# Altium footprint library pcbSMDv1.PcbLib: 30 footprints (part 2 of 2)
Each footprint in its own frame and in the unit in brackets; x right, y up, seen from the top. Pads: shape width x height; smd on the part's side, far side on the other; paste and mask are expansions set on the pad; w line width, h text height; cw(c..) or ccw(c..) is an arc to the next point about the centre after c.
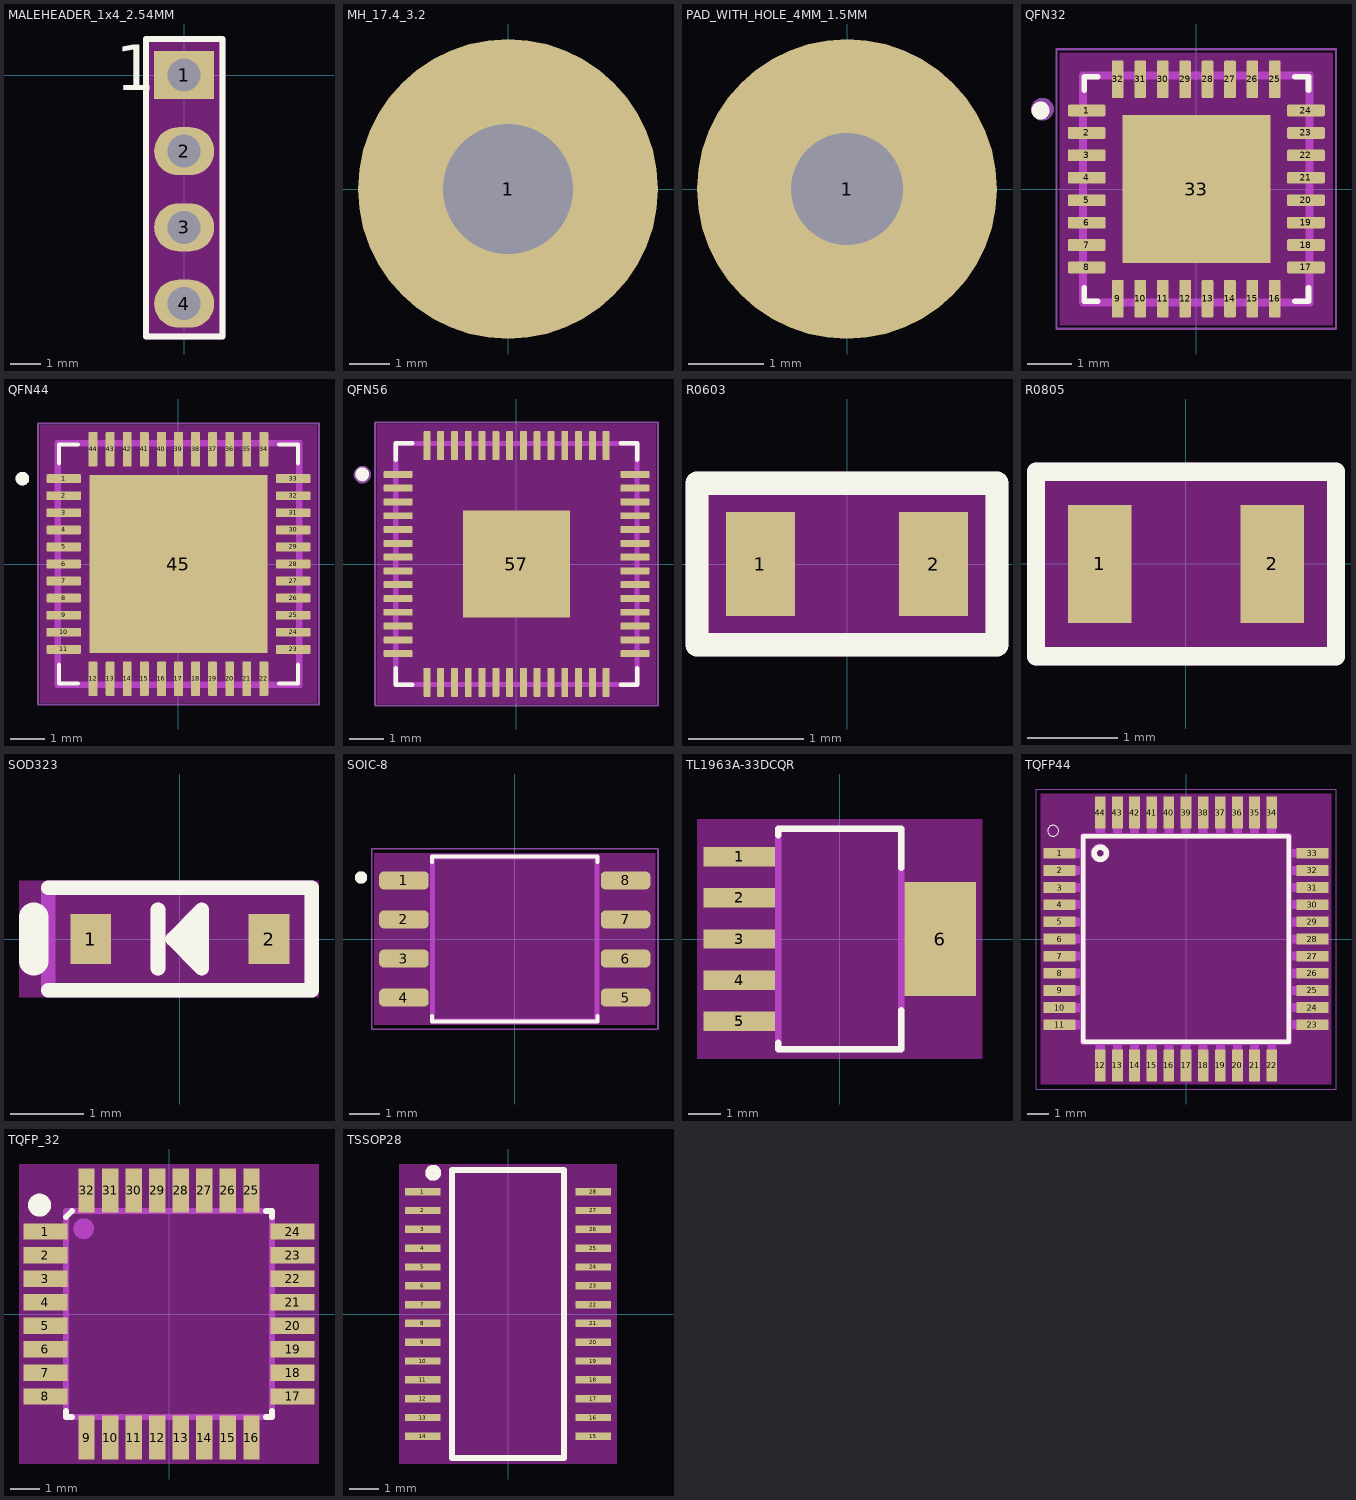
[diagram p1: the footprints below, top view; thin cyan lines are the x and y axes]

## MALEHEADER_1x4_2.54MM [mm]
pads (4):
  rect 2x1.6 hole 1.1: 1(0,0)
  oval 2x1.6 hole 1.1: 2(0,-2.54) 3(0,-5.08) 4(0,-7.62)
Top Overlay:
  lines w0.2: -1.27,-8.724 -1.27,1.2 1.27,1.2 1.27,-8.724 0.635,-8.724 -0.635,-8.724 -1.27,-8.724
  text "1" at -2.286,-0.508 h1.52
Keep-Out Layer:
  rectangle: -1.27,-8.8 1.27,1.2
Mechanical 24:
  circle w0.5: c0,0 r0.359
  lines w0.2: -1.27,-8.724 1.27,-8.724 ; -1.27,-8.7 -1.27,1.2 1.27,1.2 1.27,-8.7
  text ".Designator" at 0.738,-5.746 h1.52
3D body "HDR_1x4_White.stp": height 8.19, standoff -3.31, extent -1.205,-8.66 1.205,1.1

## MH_17.4_3.2 [mm]
pads (1):
  round 7.4 hole 3.2: 1(0,0)

## PAD_WITH_HOLE_4MM_1.5MM [mm]
pads (1):
  round 4 hole 1.5: 1(0,0)

## QFN32 [mm]
pads (33):
  rrect25% 0.84x0.26 smd: 1(-2.445,1.75) 2(-2.445,1.25) 3(-2.445,0.75) 4(-2.445,0.25) 5(-2.445,-0.25) 6(-2.445,-0.75) 7(-2.445,-1.25) 8(-2.445,-1.75) 17(2.445,-1.75) 18(2.445,-1.25) 19(2.445,-0.75) 20(2.445,-0.25) 21(2.445,0.25) 22(2.445,0.75) 23(2.445,1.25) 24(2.445,1.75)
  rrect25% 0.26x0.84 smd: 9(-1.75,-2.445) 10(-1.25,-2.445) 11(-0.75,-2.445) 12(-0.25,-2.445) 13(0.25,-2.445) 14(0.75,-2.445) 15(1.25,-2.445) 16(1.75,-2.445) 25(1.75,2.445) 26(1.25,2.445) 27(0.75,2.445) 28(0.25,2.445) 29(-0.25,2.445) 30(-0.75,2.445) 31(-1.25,2.445) 32(-1.75,2.445)
  rect 3.3x3.3 smd paste-0.605: 33(0,0)
Top Overlay:
  circle w0.2: c-3.475,1.75 r0.1
  lines w0.127: -2.5,-2.2 -2.5,-2.5 -2.2,-2.5 ; -2.5,2.2 -2.5,2.5 -2.2,2.5 ; 2.2,-2.5 2.5,-2.5 2.5,-2.2 ; 2.2,2.5 2.5,2.5 2.5,2.2
Keep-Out Layer:
  rectangle: -3.048,-3.048 3.048,3.048
Mechanical 13:
  circle w0.2: c-3.475,1.75 r0.1
  lines w0.127: -2.5,-2.5 -2.5,2.5 2.5,2.5 2.5,-2.5 -2.5,-2.5
Mechanical 15:
  lines w0.05: -3.115,-3.115 -3.115,3.115 3.115,3.115 3.115,-3.115 -3.115,-3.115
Mechanical 24:
  circle w0.254: c-3.429,1.778 r0.127
  lines w0.15: -2.54,-2.54 2.54,-2.54 2.54,2.54 -2.54,2.54 -2.54,-2.54
3D body "ESP8266EX.STEP": height 0.9, standoff 0, extent -2.5,-2.5 2.5,2.5

## QFN44 [mm]
pads (45):
  rrect25% 1.01x0.26 smd: 1(-3.36,2.5) 2(-3.36,2) 3(-3.36,1.5) 4(-3.36,1) 5(-3.36,0.5) 6(-3.36,0) 7(-3.36,-0.5) 8(-3.36,-1) 9(-3.36,-1.5) 10(-3.36,-2) 11(-3.36,-2.5) 23(3.36,-2.5) 24(3.36,-2) 25(3.36,-1.5) 26(3.36,-1) 27(3.36,-0.5) 28(3.36,0) 29(3.36,0.5) 30(3.36,1) 31(3.36,1.5) 32(3.36,2) 33(3.36,2.5)
  rrect25% 0.26x1.01 smd: 12(-2.5,-3.36) 13(-2,-3.36) 14(-1.5,-3.36) 15(-1,-3.36) 16(-0.5,-3.36) 17(0,-3.36) 18(0.5,-3.36) 19(1,-3.36) 20(1.5,-3.36) 21(2,-3.36) 22(2.5,-3.36) 34(2.5,3.36) 35(2,3.36) 36(1.5,3.36) 37(1,3.36) 38(0.5,3.36) 39(0,3.36) 40(-0.5,3.36) 41(-1,3.36) 42(-1.5,3.36) 43(-2,3.36) 44(-2.5,3.36)
  rect 5.2x5.2 smd paste-4: 45(0,0)
Top Overlay:
  circle w0.2: c-4.57,2.5 r0.1
  lines w0.127: -3.5,-2.95 -3.5,-3.5 -2.95,-3.5 ; -3.5,2.95 -3.5,3.5 -2.95,3.5 ; 2.95,-3.5 3.5,-3.5 3.5,-2.95 ; 2.95,3.5 3.5,3.5 3.5,2.95
Top Paste:
  region: 2.12,-2.12 0.48,-2.12 0.48,-0.48 2.12,-0.48
  region: -0.48,-2.12 -2.12,-2.12 -2.12,-0.48 -0.48,-0.48
  region: 2.12,0.48 0.48,0.48 0.48,2.12 2.12,2.12
  region: -0.48,0.48 -2.12,0.48 -2.12,2.12 -0.48,2.12
Keep-Out Layer:
  rectangle: -4.064,-4.064 4.064,4.064
Mechanical 13:
  circle w0.2: c-4.57,2.5 r0.1
  lines w0.127: -3.5,-3.5 -3.5,3.5 3.5,3.5 3.5,-3.5 -3.5,-3.5
Mechanical 15:
  lines w0.05: -4.115,-4.115 -4.115,4.115 4.115,4.115 4.115,-4.115 -4.115,-4.115
Mechanical 24:
  lines w0.15: -3.556,-3.556 3.556,-3.556 3.556,3.556 -3.556,3.556 -3.556,-3.556
  text ".Designator" at -0.889,-0.762 h1.52
3D body "atmega32u4-mu.STEP": height 1, standoff 0, extent -3.5,-3.5 3.5,3.5

## QFN56 [mm]
pads (57):
  rrect25% 0.84x0.2 smd mask+0.09: 1(-3.435,2.6) 2(-3.435,2.2) 3(-3.435,1.8) 4(-3.435,1.4) 5(-3.435,1) 6(-3.435,0.6) 7(-3.435,0.2) 8(-3.435,-0.2) 9(-3.435,-0.6) 10(-3.435,-1) 11(-3.435,-1.4) 12(-3.435,-1.8) 13(-3.435,-2.2) 14(-3.435,-2.6) 29(3.435,-2.6) 30(3.435,-2.2) 31(3.435,-1.8) 32(3.435,-1.4) 33(3.435,-1) 34(3.435,-0.6) 35(3.435,-0.2) 36(3.435,0.2) 37(3.435,0.6) 38(3.435,1) 39(3.435,1.4) 40(3.435,1.8) 41(3.435,2.2) 42(3.435,2.6)
  rrect25% 0.2x0.84 smd mask+0.09: 15(-2.6,-3.435) 16(-2.2,-3.435) 17(-1.8,-3.435) 18(-1.4,-3.435) 19(-1,-3.435) 20(-0.6,-3.435) 21(-0.2,-3.435) 22(0.2,-3.435) 23(0.6,-3.435) 24(1,-3.435) 25(1.4,-3.435) 26(1.8,-3.435) 27(2.2,-3.435) 28(2.6,-3.435) 43(2.6,3.435) 44(2.2,3.435) 45(1.8,3.435) 46(1.4,3.435) 47(1,3.435) 48(0.6,3.435) 49(0.2,3.435) 50(-0.2,3.435) 51(-0.6,3.435) 52(-1,3.435) 53(-1.4,3.435) 54(-1.8,3.435) 55(-2.2,3.435) 56(-2.6,3.435)
  rect 3.1x3.1 smd paste-0.57: 57(0,0)
Top Overlay:
  circle w0.2: c-4.475,2.6 r0.1
  lines w0.127: -3.5,-3.02 -3.5,-3.5 -3.02,-3.5 ; -3.5,3.02 -3.5,3.5 -3.02,3.5 ; 3.02,-3.5 3.5,-3.5 3.5,-3.02 ; 3.02,3.5 3.5,3.5 3.5,3.02
Keep-Out Layer:
  rectangle: -4.064,-4.064 4.064,4.064
Mechanical 13:
  circle w0.2: c-4.475,2.6 r0.1
  lines w0.127: -3.5,-3.5 -3.5,3.5 3.5,3.5 3.5,-3.5 -3.5,-3.5
Mechanical 15:
  lines w0.05: -4.105,-4.105 -4.105,4.105 4.105,4.105 4.105,-4.105 -4.105,-4.105
Mechanical 24:
  circle w0.254: c-4.47,2.591 r0.127
  lines w0.15: -3.5,-3.5 3.5,-3.5 3.5,3.5 -3.5,3.5 -3.5,-3.5
  text ".Designator" at -0.762,-0.737 h1.52
3D body "RP2040.STEP": height 0.9, standoff 0, extent -3.5,-3.5 3.5,3.5

## R0603 [mm]
pads (2):
  rect 0.6x0.9 smd: 1(-0.75,0) 2(0.75,0)
Top Overlay:
  lines w0.2: -1.3,-0.7 1.3,-0.7 1.3,0.7 -1.3,0.7 -1.3,-0.7
Keep-Out Layer:
  rectangle: -1.3,-0.7 1.3,0.7
Mechanical 24:
  lines w0.2: -1.3,-0.7 1.3,-0.7 1.3,0.7 -1.3,0.7 -1.3,-0.7
  text ".Designator" at -0.76,0.973 h1
3D body "R0603.step": height 0.81, standoff 0.01, extent -0.787,-0.42 0.813,0.42

## R0805 [mm]
pads (2):
  rect 0.7x1.3 smd: 1(-0.95,0) 2(0.95,0)
Top Overlay:
  lines w0.2: -1.651,-1.016 -1.651,1.016 1.651,1.016 1.651,-1.016 -1.651,-1.016
Keep-Out Layer:
  rectangle: -1.651,-1.016 1.651,1.016
Mechanical 24:
  lines w0.2: -1.651,-1.016 -1.651,1.016 1.651,1.016 1.651,-1.016 -1.651,-1.016
  text ".Designator" at -1.092,-0.5 h1.02
3D body "User Library-Chip Resistor2.step": height 0.7, standoff 0, extent -1,-0.6 1,0.6

## SOD323 [mil]
pads (2):
  rect 22x27 smd: 1(-48,0) 2(48,0)
Top Overlay:
  lines w7.87: -70.87,-27.56 70.87,-27.56 70.87,27.56 -70.87,27.56 ; -11.81,-15.75 -11.81,15.75 ; 3.94,7.87 11.81,0 ; 11.81,0 11.81,15.75 ; 11.81,0 3.94,0 3.94,-7.87 11.81,0 ; 11.81,15.75 11.81,-15.75 -3.94,0 11.81,15.75
  lines w15.75: -78.74,-11.81 -78.74,11.81
Keep-Out Layer:
  rectangle: -86.61,-31.5 74.8,31.5
Mechanical 24:
  lines w7.87: -11.81,-15.75 -11.81,15.75 ; -70.87,-27.56 -70.87,27.56 70.87,27.56 70.87,-27.56 -70.87,-27.56 ; -3.94,0 11.81,15.75 11.81,-15.75 -3.94,0
  text ".Designator" at -43.31,-65.62 h27.56
3D body "User Library-SOD323.STEP": height 35.43, standoff -3.54, extent -49.21,-24.61 49.21,24.61

## SOIC-8 [mm]
pads (8):
  rrect50% 1.61x0.58 smd: 1(-3.605,1.905) 2(-3.605,0.635) 3(-3.605,-0.635) 4(-3.605,-1.905) 5(3.605,-1.905) 6(3.605,-0.635) 7(3.605,0.635) 8(3.605,1.905)
Top Overlay:
  circle w0.2: c-5,2 r0.1
  lines w0.127: -2.69,-2.51 -2.69,-2.69 2.69,-2.69 2.69,-2.51 ; -2.69,2.51 -2.69,2.69 2.69,2.69 2.69,2.51
Keep-Out Layer:
  rectangle: -4.572,-2.794 4.572,2.794
Mechanical 13:
  circle w0.2: c-5,2 r0.1
  lines w0.127: -2.69,-2.69 -2.69,2.69 2.69,2.69 2.69,-2.69 -2.69,-2.69
Mechanical 15:
  lines w0.05: -4.66,-2.94 -4.66,2.94 4.66,2.94 4.66,-2.94 -4.66,-2.94
Mechanical 24:
  lines w0.15: -2.667,-2.667 2.667,-2.667 2.667,2.667 -2.667,2.667 -2.667,-2.667
  text ".Designator" at -0.889,-0.635 h1.52
3D body "SOIC8.STEP": height 2.3, standoff -0.02, extent -4.196,-2.69 4.196,2.69

## TL1963A-33DCQR [mm]
pads (6):
  rect 2.2x0.6 smd: 1(-3.1,2.54) 2(-3.1,1.27) 3(-3.1,0) 4(-3.1,-1.27) 5(-3.1,-2.54)
  rect 2.2x3.5 smd: 6(3.1,0)
Top Overlay:
  lines w0.2: -1.9,-3.2 -1.9,-3.4 1.9,-3.4 1.9,-2.2 ; -1.9,3.2 -1.9,3.4 1.9,3.4 1.9,2.2
Keep-Out Layer:
  rectangle: -4.4,-3.7 4.4,3.7
Mechanical 24:
  lines w0.2: -1.9,-3.4 -1.9,3.4 1.9,3.4 1.9,-3.4 -1.9,-3.4
  text ".Designator" at -0.438,1.746 h1.52
3D body "User Library-TPS73701DCQ.STEP": height 1.71, standoff -0.09, extent -3.66,-3.275 3.6,3.275

## TQFP44 [mm]
pads (44):
  rect 1.5x0.5 smd: 1(-5.9,4) 2(-5.9,3.2) 3(-5.9,2.4) 4(-5.9,1.6) 5(-5.9,0.8) 6(-5.9,0) 7(-5.9,-0.8) 8(-5.9,-1.6) 9(-5.9,-2.4) 10(-5.9,-3.2) 11(-5.9,-4) 23(5.9,-4) 24(5.9,-3.2) 25(5.9,-2.4) 26(5.9,-1.6) 27(5.9,-0.8) 28(5.9,0) 29(5.9,0.8) 30(5.9,1.6) 31(5.9,2.4) 32(5.9,3.2) 33(5.9,4)
  rect 0.5x1.5 smd: 12(-4,-5.9) 13(-3.2,-5.9) 14(-2.4,-5.9) 15(-1.6,-5.9) 16(-0.8,-5.9) 17(0,-5.9) 18(0.8,-5.9) 19(1.6,-5.9) 20(2.4,-5.9) 21(3.2,-5.9) 22(4,-5.9) 34(4,5.9) 35(3.2,5.9) 36(2.4,5.9) 37(1.6,5.9) 38(0.8,5.9) 39(0,5.9) 40(-0.8,5.9) 41(-1.6,5.9) 42(-2.4,5.9) 43(-3.2,5.9) 44(-4,5.9)
Top Overlay:
  circle w0: c-6.2,5.05 r0.254
  circle w0.254: c-4,4 r0.283
  lines w0.203: -4.8,-4.8 -4.8,4.8 4.8,4.8 4.8,-4.8 -4.8,-4.8
Keep-Out Layer:
  rectangle: -6.8,-6.8 6.8,6.8
Mechanical 13:
  drawing of 44 lines, arcs and shapes, not listed
Mechanical 15:
  lines w0.05: -7,-7 -7,7 7,7 7,-7 -7,-7
Mechanical 24:
  circle w0.254: c-4.013,4.013 r0.309
  lines w0.254: -4.826,-4.826 -4.826,4.826 4.826,4.826 4.826,-4.826 -4.826,-4.826
  text ".Designator" at -1.194,-0.737 h1.52
3D body "atmega32u4-au.stp": height 1.1, standoff 0, extent -5.969,-5.969 6.031,6.031

## TQFP_32 [mm]
pads (32):
  rect 1.5x0.55 smd mask+0.06: 1(-4.2,2.8) 2(-4.2,2) 3(-4.2,1.2) 4(-4.2,0.4) 5(-4.2,-0.4) 6(-4.2,-1.2) 7(-4.2,-2) 8(-4.2,-2.8) 17(4.2,-2.8) 18(4.2,-2) 19(4.2,-1.2) 20(4.2,-0.4) 21(4.2,0.4) 22(4.2,1.2) 23(4.2,2) 24(4.2,2.8)
  rect 0.55x1.5 smd mask+0.06: 9(-2.8,-4.2) 10(-2,-4.2) 11(-1.2,-4.2) 12(-0.4,-4.2) 13(0.4,-4.2) 14(1.2,-4.2) 15(2,-4.2) 16(2.8,-4.2) 25(2.8,4.2) 26(2,4.2) 27(1.2,4.2) 28(0.4,4.2) 29(-0.4,4.2) 30(-1.2,4.2) 31(-2,4.2) 32(-2.8,4.2)
Top Overlay:
  circle w0.5: c-4.4,3.7 r0.141
  lines w0.2: -3.5,-3.3 -3.5,-3.5 -3.3,-3.5 ; -3.5,3.3 -3.3,3.5 ; 3.3,-3.5 3.5,-3.5 3.5,-3.3 ; 3.3,3.5 3.5,3.5 3.5,3.3 ; 3.5,-3.3 3.5,-3.4 3.5,-3.3
Keep-Out Layer:
  rectangle: -5.1,-5.1 5.1,5.1
Mechanical 24:
  circle w0.5: c-2.9,2.9 r0.1
  lines w0.2: -3.5,-3.5 -3.5,3.5 3.5,3.5 3.5,-3.4 3.4,-3.5 -3.5,-3.5
  text ".Designator" at -1.146,-0.638 h1.52
3D body "User Library-tqfp32.step": height 1.2, standoff 0, extent -4.6,-4.599 4.599,4.599

## TSSOP28 [mm]
pads (28):
  rect 1.2x0.25 smd: 1(-2.9,4.16) 2(-2.9,3.52) 3(-2.9,2.88) 4(-2.9,2.24) 5(-2.9,1.6) 6(-2.9,0.96) 7(-2.9,0.32) 8(-2.9,-0.32) 9(-2.9,-0.96) 10(-2.9,-1.6) 11(-2.9,-2.24) 12(-2.9,-2.88) 13(-2.9,-3.52) 14(-2.9,-4.16) 15(2.9,-4.16) 16(2.9,-3.52) 17(2.9,-2.88) 18(2.9,-2.24) 19(2.9,-1.6) 20(2.9,-0.96) 21(2.9,-0.32) 22(2.9,0.32) 23(2.9,0.96) 24(2.9,1.6) 25(2.9,2.24) 26(2.9,2.88) 27(2.9,3.52) 28(2.9,4.16)
Top Overlay:
  circle w0.254: c-2.541,4.8 r0.141
  lines w0.2: -1.9,-4.9 -1.9,4.9 1.9,4.9 1.9,-4.9 -1.9,-4.9
Keep-Out Layer:
  rectangle: -3.7,-5.1 3.7,5.1
Mechanical 24:
  circle w0.254: c-2.541,4.8 r0.141
  lines w0.2: -1.9,-4.9 1.9,-4.9 1.9,4.9 -1.9,4.9 -1.9,-4.9
  text ".Designator" at -0.246,-0.738 h1.52
3D body "TSSOP-28.STEP": height 0.97, standoff -0.02, extent -3.15,-4.8 3.25,4.9